# Altium footprint library AliPadash_New.PcbLib: 58 footprints (part 4 of 4)
Each footprint in its own frame and in the unit in brackets; x right, y up, seen from the top. Pads: shape width x height; smd on the part's side, far side on the other; paste and mask are expansions set on the pad; w line width, h text height; cw(c..) or ccw(c..) is an arc to the next point about the centre after c.
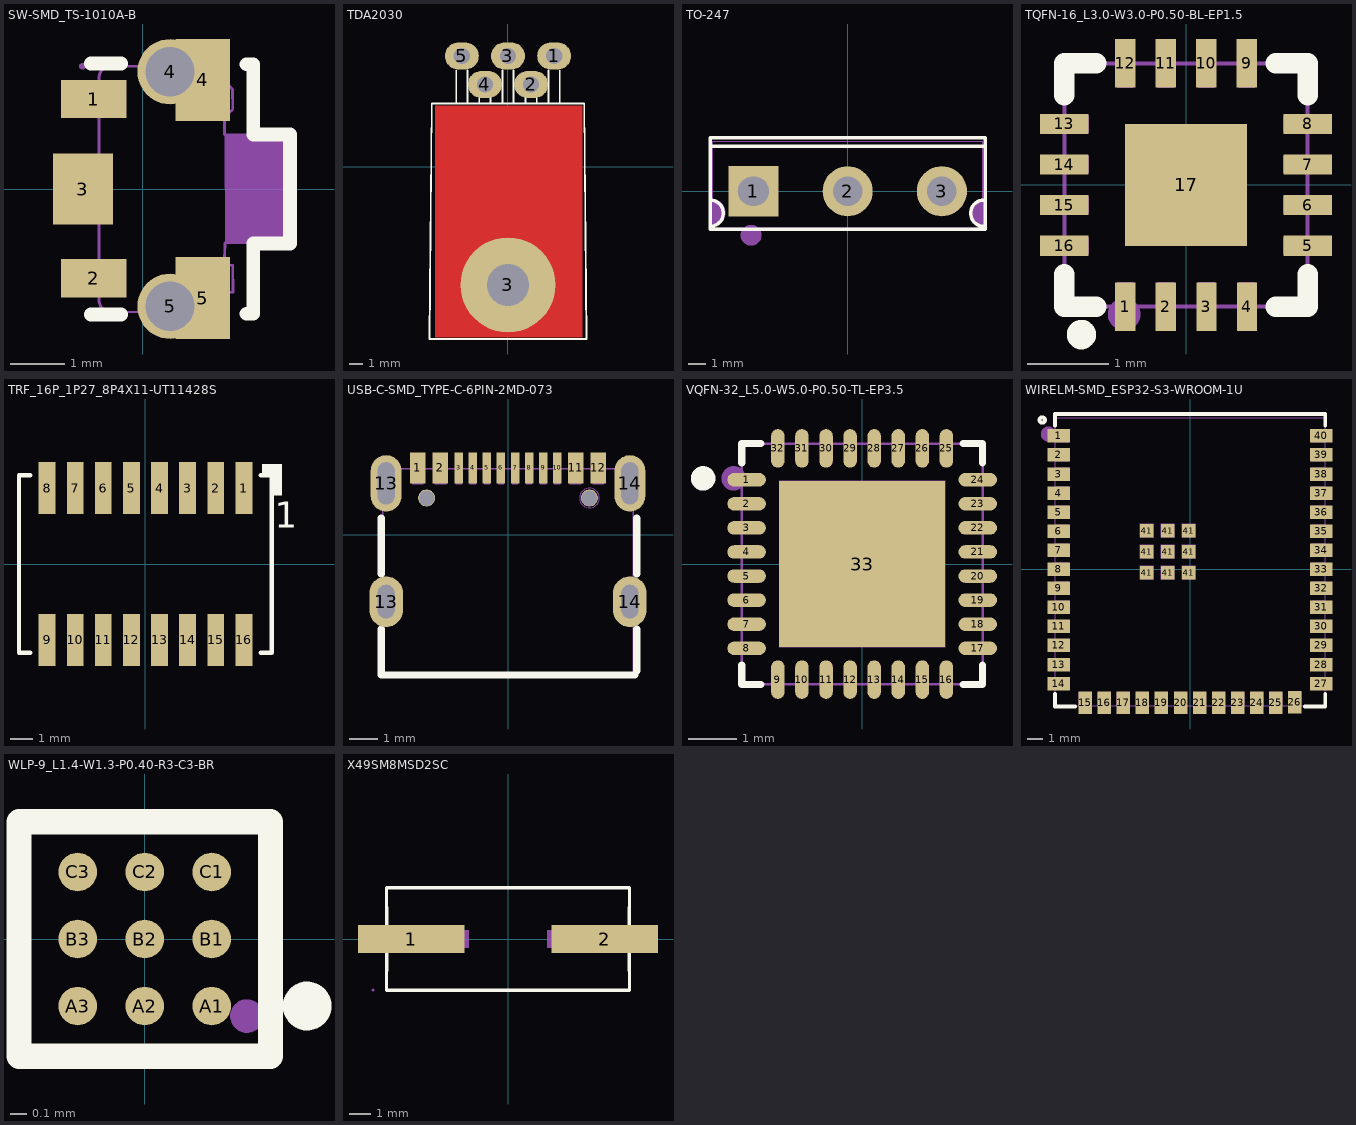
[diagram p3: the footprints below, top view; thin cyan lines are the x and y axes]

## SW-SMD_TS-1010A-B [mm]
pads (7):
  rect 1.2x0.7 smd paste+0 mask+0.051: 1(-0.9,1.65) 2(-0.9,-1.635)
  rect 1.1x1.3 smd paste+0 mask+0.051: 3(-1.1,0)
  round 1.2 hole 0.9 paste-2539.97 mask+0.051: 4(0.5,2.15) 5(0.5,-2.15)
  rect 1x1.5 smd paste+0 mask+0.051: 4(1.1,2) 5(1.1,-2)
Top Overlay:
  lines w0.254: -0.95,-2.3 -0.4,-2.3 ; -0.95,2.3 -0.4,2.3 ; 1.897,-2.286 2.024,-2.286 2.024,-1 2.7,-1 2.7,1 2.024,1 2.024,2.286 1.897,2.286
Mechanical 6:
  region: 1.505,1.006 2.69,1.006 2.69,-0.984 1.509,-0.984
Mechanical 15:
  region: -1.047,2.251 -1.047,2.275 -1.082,2.31 -1.132,2.31 -1.167,2.275 -1.167,2.251 -1.167,2.226 -1.132,2.192 -1.083,2.192 -1.047,2.226
  region: 1.5,1.651 1.25,1.651 1.25,2.251 1.5,2.251
  region: 1.5,-2.26 1.25,-2.26 1.25,-1.66 1.5,-1.66
  region: -0.802,0.5 -0.552,0.5 -0.552,-0.5 -0.802,-0.5
  region: 0.15,2.251 0.85,2.251 0.85,2.001 0.15,2.001
  region: 0.15,-2.012 0.85,-2.012 0.85,-2.262 0.15,-2.262
  region: -1.107,-1.435 -0.707,-1.435 -0.707,-1.835 -1.107,-1.835
  region: -1.107,1.85 -0.707,1.85 -0.707,1.45 -1.107,1.45
  lines w0.051: -0.957,1.851 -0.955,1.454 -0.803,1.45 -0.805,-1.449 -0.955,-1.451 -0.954,-1.849 -0.804,-1.85 -0.804,-2.05 -0.794,-2.099 -0.774,-2.149 -0.748,-2.188 -0.705,-2.22 -0.654,-2.239 -0.606,-2.25 1.504,-2.262 1.5,-1.89 1.655,-1.895 1.65,-1.401 1.49,-1.392 1.504,-0.992 2.709,-0.978 2.694,0.993 1.499,0.999 1.495,1.398 1.575,1.401 1.584,1.411 1.597,1.411 1.638,1.451 1.648,1.471 1.645,1.82 1.635,1.838 1.597,1.881 1.589,1.878 1.574,1.891 1.499,1.892 1.499,2.251 -0.604,2.25 -0.652,2.24 -0.704,2.22 -0.744,2.19 -0.774,2.15 -0.794,2.101 -0.804,2.051 -0.802,1.85 -0.808,1.851 -0.957,1.851

## TDA2030 [mm]
pads (6):
  oval 2.5x2 hole 1.2: 1(3.4,8.175) 2(1.7,6.075) 3(0,8.175) 4(-1.7,6.075) 5(-3.4,8.175)
  round 7 hole 3.1: 3(0,-8.683)
Top Layer:
  rectangle: -5.368,-12.56 5.487,4.511
Top Overlay:
  lines w0.127: -3.81,5.405 -3.81,4.675 -3.81,7.113 ; -2.99,5.405 -2.99,4.675 -2.99,7.113 ; -2.11,4.675 -2.11,5.405 ; -1.29,4.675 -1.29,5.405 ; -0.41,5.405 -0.41,4.675 -0.41,7.098 ; 0.41,5.405 0.41,4.675 0.41,7.113 ; 1.29,4.675 1.29,5.405 ; 2.11,4.675 2.11,5.405 ; 2.99,5.405 2.99,4.675 2.99,7.098 ; 3.81,5.405 3.81,4.675 3.81,7.098 ; -5.778,-12.666 5.779,-12.666 5.624,4.67 -5.624,4.67 -5.778,-12.666

## TO-247 [mm]
pads (3):
  rect 2.9x2.9 hole 1.7 slot 1.785 at 0 deg paste-2539.97 mask+0.051: 1(-5.45,0)
  round 2.9 hole 1.7 paste-2539.97 mask+0.051: 2(0,0) 3(5.45,0)
Top Overlay:
  lines w0.2: -7.951,-2.029 ccw(c-7.951,-1.267) -7.951,-0.505 ; -7.951,2.6 7.95,2.6 ; 7.874,-2.032 cw(c7.874,-1.27) 7.874,-0.508 ; -7.951,-2.201 7.95,-2.201 7.95,3.1 -7.951,3.1 -7.951,-2.201
Mechanical 6:
  circle w0.6: c-5.588,-2.54 r0.3
  region: 7.873,-0.432 7.767,-0.432 7.564,-0.486 7.382,-0.592 7.233,-0.741 7.127,-0.923 7.073,-1.127 7.073,-1.337 7.127,-1.541 7.233,-1.723 7.382,-1.872 7.564,-1.977 7.767,-2.032 7.873,-2.032
  region: -7.874,-2.032 -7.769,-2.032 -7.565,-1.977 -7.383,-1.872 -7.234,-1.723 -7.129,-1.541 -7.074,-1.337 -7.074,-1.127 -7.129,-0.923 -7.234,-0.741 -7.383,-0.592 -7.565,-0.487 -7.769,-0.432 -7.874,-0.432
Mechanical 15:
  region: 4.845,0.312 6.055,0.312 6.055,-0.312 4.845,-0.312
  region: -0.605,0.312 0.605,0.312 0.605,-0.312 -0.605,-0.312
  region: -6.055,0.312 -4.845,0.312 -4.845,-0.312 -6.055,-0.312
  region: -7.814,-2.19 -7.814,-2.166 -7.849,-2.131 -7.898,-2.131 -7.933,-2.166 -7.934,-2.19 -7.933,-2.214 -7.898,-2.249 -7.849,-2.249 -7.814,-2.214
  lines w0.051: -7.8,-2.1 7.8,-2.1 7.8,2.9 -7.8,2.9 -7.8,-2.1

## TQFN-16_L3.0-W3.0-P0.50-BL-EP1.5 [mm]
pads (17):
  rect 0.25x0.6 smd paste-100 mask+0.051: 1(-0.748,-1.5) 2(-0.249,-1.5) 3(0.252,-1.5) 4(0.751,-1.5) 9(0.75,1.5) 10(0.25,1.5) 11(-0.25,1.5) 12(-0.748,1.5)
  rect 0.6x0.25 smd paste-100 mask+0.051: 5(1.5,-0.748) 6(1.5,-0.248) 7(1.5,0.252) 8(1.5,0.752) 13(-1.5,0.752) 14(-1.5,0.252) 15(-1.5,-0.248) 16(-1.5,-0.748)
  rect 1.5x1.5 smd paste-100 mask+0.051: 17(0,0)
Top Overlay:
  circle w0.254: c-1.289,-1.845 r0.054
  lines w0.254: -1.5,-1.104 -1.5,-1.5 -1.105,-1.5 ; -1.5,1.108 -1.5,1.5 -1.105,1.5 ; 1.106,1.5 1.5,1.5 1.5,1.108 ; 1.108,-1.5 1.5,-1.5 1.5,-1.104
Top Paste:
  region: -0.6,-0.6 -0.6,0.6 0.6,0.6 0.6,-0.6
  region: -0.623,-1.8 -0.873,-1.8 -0.873,-1.2 -0.623,-1.2
  region: -0.123,-1.8 -0.373,-1.8 -0.373,-1.2 -0.123,-1.2
  region: 0.377,-1.8 0.127,-1.8 0.127,-1.2 0.377,-1.2
  region: 0.877,-1.8 0.627,-1.8 0.627,-1.2 0.877,-1.2
  region: 1.8,-0.623 1.8,-0.873 1.2,-0.873 1.2,-0.623
  region: 1.8,-0.123 1.8,-0.373 1.2,-0.373 1.2,-0.123
  region: 1.8,0.377 1.8,0.127 1.2,0.127 1.2,0.377
  region: 1.8,0.877 1.8,0.627 1.2,0.627 1.2,0.877
  region: 0.625,1.8 0.875,1.8 0.875,1.2 0.625,1.2
  region: 0.125,1.8 0.375,1.8 0.375,1.2 0.125,1.2
  region: -0.375,1.8 -0.125,1.8 -0.125,1.2 -0.375,1.2
  region: -0.873,1.8 -0.623,1.8 -0.623,1.2 -0.873,1.2
  region: -1.8,0.627 -1.8,0.877 -1.2,0.877 -1.2,0.627
  region: -1.8,0.127 -1.8,0.377 -1.2,0.377 -1.2,0.127
  region: -1.8,-0.373 -1.8,-0.123 -1.2,-0.123 -1.2,-0.373
  region: -1.8,-0.873 -1.8,-0.623 -1.2,-0.623 -1.2,-0.873
Mechanical 6:
  circle w0.2: c-0.762,-1.596 r0.1
Mechanical 15:
  region: -1.44,-1.5 -1.44,-1.475 -1.475,-1.44 -1.525,-1.44 -1.56,-1.475 -1.56,-1.5 -1.56,-1.525 -1.525,-1.56 -1.475,-1.56 -1.44,-1.525
  region: -0.75,-0.75 -0.75,0.75 0.75,0.75 0.75,-0.75
  region: -1.2,-0.648 -1.2,-0.848 -1.5,-0.848 -1.5,-0.648
  region: -1.2,-0.148 -1.2,-0.348 -1.5,-0.348 -1.5,-0.148
  region: -1.2,0.352 -1.2,0.152 -1.5,0.152 -1.5,0.352
  region: -1.2,0.852 -1.2,0.652 -1.5,0.652 -1.5,0.852
  region: -0.848,1.5 -0.648,1.5 -0.648,1.2 -0.848,1.2
  region: -0.35,1.5 -0.15,1.5 -0.15,1.2 -0.35,1.2
  region: 0.15,1.5 0.35,1.5 0.35,1.2 0.15,1.2
  region: 0.65,1.5 0.85,1.5 0.85,1.2 0.65,1.2
  region: 1.2,0.652 1.2,0.852 1.5,0.852 1.5,0.652
  region: 1.2,0.152 1.2,0.352 1.5,0.352 1.5,0.152
  region: 1.2,-0.348 1.2,-0.148 1.5,-0.148 1.5,-0.348
  region: 1.2,-0.848 1.2,-0.648 1.5,-0.648 1.5,-0.848
  region: 0.851,-1.5 0.651,-1.5 0.651,-1.2 0.851,-1.2
  region: 0.352,-1.5 0.152,-1.5 0.152,-1.2 0.352,-1.2
  region: -0.149,-1.5 -0.349,-1.5 -0.349,-1.2 -0.149,-1.2
  region: -0.648,-1.5 -0.848,-1.5 -0.848,-1.2 -0.648,-1.2
  lines w0.051: -1.5,-1.5 -1.5,1.5 1.5,1.5 1.5,-1.5 -1.5,-1.5

## TRF_16P_1P27_8P4X11-UT11428S [mm]
pads (16):
  rect 0.76x2.35 smd: 1(4.445,3.425) 2(3.175,3.425) 3(1.905,3.425) 4(0.635,3.425) 5(-0.635,3.425) 6(-1.905,3.425) 7(-3.175,3.425) 8(-4.445,3.425) 9(-4.445,-3.425) 10(-3.175,-3.425) 11(-1.905,-3.425) 12(-0.635,-3.425) 13(0.635,-3.425) 14(1.905,-3.425) 15(3.175,-3.425) 16(4.445,-3.425)
Top Overlay:
  region: 5.651,3.111 6.159,3.111 6.159,4.508 5.271,4.508 5.271,4 5.651,4
  lines w0.203: -5.207,-4 -5.715,-4 -5.715,4 -5.207,4 ; 5.207,-4 5.715,-4 5.715,4 5.207,4
  text "1" at 5.841,1.261 h2
Mechanical 24:
  text "1" at 4.242,3.425 h0.51
  text "3" at 1.702,3.425 h0.51
  text "2" at 2.972,3.425 h0.51
  text "14" at 1.499,-3.425 h0.51
  text "13" at 0.229,-3.425 h0.51
  text "9" at -4.648,-3.425 h0.51
  text "10" at -3.581,-3.425 h0.51
  text "12" at -1.041,-3.425 h0.51
  text "11" at -2.311,-3.425 h0.51
  text "15" at 2.769,-3.425 h0.51
  text "16" at 4.039,-3.425 h0.51
  text "6" at -2.108,3.425 h0.51
  text "7" at -3.378,3.425 h0.51
  text "4" at 0.432,3.425 h0.51
  text "8" at -4.648,3.425 h0.51
  text "5" at -0.838,3.425 h0.51

## USB-C-SMD_TYPE-C-6PIN-2MD-073 [mm]
pads (18):
  rect 0.55x1.1 smd paste-100 mask+0.05: 1(-3.2,2.375) 2(-2.4,2.375) 11(2.4,2.375) 12(3.2,2.375)
  rect 0.3x1.1 smd paste-100 mask+0.05: 3(-1.75,2.375) 4(-1.25,2.375) 5(-0.75,2.375) 6(-0.25,2.375) 7(0.25,2.375) 8(0.75,2.375) 9(1.25,2.375) 10(1.75,2.375)
  oval 1.1x2 hole 0.6 slot 1.5 at 90 deg paste-2539.97 mask+0.05: 13(-4.325,1.825) 14(4.325,1.825)
  oval 1.2x1.8 hole 0.6 slot 1.2 at 90 deg paste-2539.97 mask+0.05: 13(-4.325,-2.375) 14(4.325,-2.375)
  round 0.6 hole 0.55: ""(-2.89,1.305) ""(2.89,1.305)
Top Overlay:
  lines w0.254: -4.5,-3.356 -4.5,-4.975 4.5,-4.975 ; -4.5,-1.394 -4.5,0.594 ; 4.572,-4.826 4.572,-3.353 ; 4.572,-1.397 4.572,0.597
Top Paste:
  drawing of 16 lines, arcs and shapes, not listed
Mechanical 1:
  circle w0.005: c2.89,1.305 r0.35
Mechanical 15:
  region: 4.2,-2.025 4.45,-2.025 4.45,-2.725 4.2,-2.725
  region: -4.45,-2.025 -4.2,-2.025 -4.2,-2.725 -4.45,-2.725
  region: 4.2,2.349 4.45,2.349 4.45,1.249 4.2,1.249
  region: -4.45,2.349 -4.2,2.349 -4.2,1.249 -4.45,1.249
  region: 3,2.649 3.4,2.649 3.4,1.799 3,1.799
  region: 2.2,2.649 2.6,2.649 2.6,1.799 2.2,1.799
  region: -2.6,2.649 -2.2,2.649 -2.2,1.799 -2.6,1.799
  region: -3.4,2.649 -3,2.649 -3,1.799 -3.4,1.799
  region: 1.65,2.649 1.85,2.649 1.85,1.799 1.65,1.799
  region: 1.15,2.649 1.35,2.649 1.35,1.799 1.15,1.799
  region: 0.65,2.649 0.85,2.649 0.85,1.799 0.65,1.799
  region: 0.15,2.649 0.35,2.649 0.35,1.799 0.15,1.799
  region: -0.35,2.649 -0.15,2.649 -0.15,1.799 -0.35,1.799
  region: -1.35,2.649 -1.15,2.649 -1.15,1.799 -1.35,1.799
  region: -0.85,2.649 -0.65,2.649 -0.65,1.799 -0.85,1.799
  region: -1.85,2.649 -1.65,2.649 -1.65,1.799 -1.85,1.799
  region: -4.39,2.649 -4.39,2.674 -4.425,2.709 -4.475,2.709 -4.51,2.674 -4.51,2.649 -4.51,2.624 -4.475,2.589 -4.425,2.589 -4.39,2.624
  lines w0.051: -4.45,-5.001 4.45,-5.001 4.45,2.349 -4.45,2.349 -4.45,-5.001

## VQFN-32_L5.0-W5.0-P0.50-TL-EP3.5 [mm]
pads (33):
  oval 0.8x0.28 smd paste-100 mask+0.05: 1(-2.4,1.75) 2(-2.4,1.25) 3(-2.4,0.75) 4(-2.4,0.25) 5(-2.4,-0.25) 6(-2.4,-0.75) 7(-2.4,-1.25) 8(-2.4,-1.75) 17(2.4,-1.75) 18(2.4,-1.25) 19(2.4,-0.75) 20(2.4,-0.25) 21(2.4,0.25) 22(2.4,0.75) 23(2.4,1.25) 24(2.4,1.75)
  oval 0.28x0.8 smd paste-100 mask+0.05: 9(-1.75,-2.4) 10(-1.25,-2.4) 11(-0.75,-2.4) 12(-0.25,-2.4) 13(0.25,-2.4) 14(0.75,-2.4) 15(1.25,-2.4) 16(1.75,-2.4) 25(1.75,2.4) 26(1.25,2.4) 27(0.75,2.4) 28(0.25,2.4) 29(-0.25,2.4) 30(-0.75,2.4) 31(-1.25,2.4) 32(-1.75,2.4)
  rect 3.45x3.45 smd paste-100 mask+0.05: 33(0,0)
Top Overlay:
  circle w0.254: c-3.302,1.778 r0.127
  lines w0.15: -2.5,-2.1 -2.5,-2.5 -2.1,-2.5 ; -2.5,2.1 -2.5,2.5 -2.1,2.5 ; 2.1,-2.5 2.5,-2.5 2.5,-2.1 ; 2.1,2.5 2.5,2.5 2.5,2.1
Top Paste:
  drawing of 33 lines, arcs and shapes, not listed
Mechanical 6:
  circle w0.254: c-2.667,1.778 r0.127
Mechanical 15:
  drawing of 38 lines, arcs and shapes, not listed

## WIRELM-SMD_ESP32-S3-WROOM-1U [mm]
pads (49):
  rect 1.5x0.9 smd paste+0 mask+0.05: 1(-8.75,8.895) 2(-8.75,7.625) 3(-8.75,6.355) 4(-8.75,5.085) 5(-8.75,3.815) 6(-8.75,2.545) 7(-8.75,1.275) 8(-8.75,0.005) 9(-8.75,-1.265) 10(-8.75,-2.535) 11(-8.75,-3.805) 12(-8.75,-5.075) 13(-8.75,-6.345) 14(-8.75,-7.615) 27(8.75,-7.615) 28(8.75,-6.345) 29(8.75,-5.075) 30(8.75,-3.805) 31(8.75,-2.535) 32(8.75,-1.265) 33(8.75,0.005) 34(8.75,1.275) 35(8.75,2.545) 36(8.75,3.815) 37(8.75,5.085) 38(8.75,6.355) 39(8.75,7.625) 40(8.75,8.895)
  rect 0.9x1.5 smd paste+0 mask+0.05: 15(-6.985,-8.895) 16(-5.715,-8.895) 17(-4.445,-8.895) 18(-3.175,-8.895) 19(-1.905,-8.895) 20(-0.635,-8.895) 21(0.635,-8.895) 22(1.905,-8.895) 23(3.175,-8.895) 24(4.445,-8.895) 25(5.715,-8.895) 26(6.985,-8.865)
  rect 0.9x0.9 smd: 41(-2.9,-0.225) 41(-2.9,1.175) 41(-2.9,2.575) 41(-1.5,-0.225) 41(-1.5,1.175) 41(-1.5,2.575) 41(-0.1,-0.225) 41(-0.1,1.175) 41(-0.1,2.575)
Top Overlay:
  circle w0.254: c-9.855,9.954 r0.183
  lines w0.254: -9,-8.296 -9,-9.144 -7.666,-9.144 ; -9,9.576 -9,10.355 9.017,10.355 9.017,9.576 ; 7.666,-9.144 9.017,-9.144 9.017,-8.296
Mechanical 6:
  circle w0.5: c-9.451,9.018 r0.25
Mechanical 15:
  drawing of 54 lines, arcs and shapes, not listed

## WLP-9_L1.4-W1.3-P0.40-R3-C3-BR [mm]
pads (9):
  round 0.23 smd paste+0 mask+0.051: A1(0.4,-0.4) A2(0,-0.4) A3(-0.4,-0.4) B1(0.4,0) B2(0,0) B3(-0.4,0) C1(0.4,0.4) C2(0,0.4) C3(-0.4,0.4)
Top Overlay:
  circle w0.15: c0.97,-0.4 r0.071
  lines w0.15: -0.75,-0.7 0.75,-0.7 0.75,0.7 -0.75,0.7 -0.75,-0.7
Mechanical 15:
  circle w0.1: c0.61,-0.46 r0.05

## X49SM8MSD2SC [mm]
pads (2):
  rect 5x1.3 smd paste+0 mask+0.051: 1(-4.553,0) 2(4.553,0)
Top Overlay:
  lines w0.152: -5.715,-2.413 -5.7,-0.662 -5.715,-2.413 ; -5.715,-2.413 5.715,-2.413 ; -5.715,-2.413 5.715,-2.413 ; -5.715,2.413 5.715,2.413 ; -5.715,2.413 -5.7,0.662 -5.715,2.413 ; -5.715,2.413 5.715,2.413 ; 5.715,-2.413 5.7,-0.662 5.715,-2.413 ; 5.715,2.413 5.7,0.662 5.715,2.413
Mechanical 15:
  region: -1.84,-0.4 -6.34,-0.4 -6.34,0.4 -1.84,0.4
  region: 6.34,-0.4 1.84,-0.4 1.84,0.4 6.34,0.4
  region: -6.28,-2.4 -6.281,-2.376 -6.316,-2.342 -6.364,-2.342 -6.399,-2.376 -6.4,-2.4 -6.399,-2.424 -6.364,-2.458 -6.316,-2.458 -6.281,-2.424
  lines w0.051: -5.7,-2.4 5.7,-2.4 5.7,2.4 -5.7,2.4 -5.7,-2.4